# EAGLE library part MAG3110FCR1 (library circuit_tree)
IC
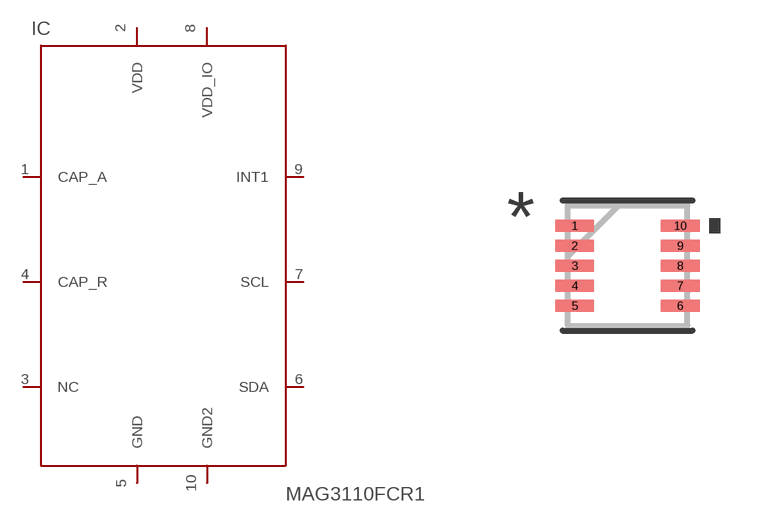
[diagram p3: symbol with the pads of DFN-10; footprint DFN-10]

Designator prefix IC

## MAG3110FCR1  [DFN-10]
1  CAP_A  pas
2  VDD  pas
3  NC  pas
4  CAP_R  pas
5  GND  pas
6  SDA  pas
7  SCL  pas
8  VDD_IO  pas
9  INT1  pas
10  GND2  pas

## Footprint DFN-10 (pad centres in mm)
smd 0.965 x 0.305: 1 -1.321,1; 2 -1.321,0.5; 3 -1.321,0; 4 -1.321,-0.5; 5 -1.321,-1; 6 1.321,-1; 7 1.321,-0.5; 8 1.321,0; 9 1.321,0.5; 10 1.321,1